# Altium schematic symbol library 肖特基二极管.SchLib: 1 symbol
Pins are listed as number, name and electrical type; pins without a type are passive.

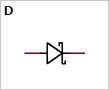
[diagram p0: symbol D]

## D
designator D?, comment B5819WS_C7420331  (value not drawn)
Manufacturer: 宏迦橙; Add into BOM: yes; Diode Configuration: 独立式; Reverse Voltage (Vr): 40V; Average Rectified Current (Io): 1A; Forward Voltage (Vf@If): 600mV@1.0A; Reverse Leakage Current (Ir): 1mA@40V; Peak forward surge current: 10A; Name: B5819WS; Symbol: B5819WS_C7420331; Device: B5819WS_C7420331; LCSC Part Name: 电压:40V 电流:1A; Supplier Part: C7420331; Manufacturer Part: B5819WS; Supplier Footprint: SOD-323; JLCPCB Part Class: Extended Part; Datasheet: https://atta.szlcsc.com/upload/public/pdf/source/20230828/03CA0F4F90DAE368A7153B7B5E4D0651.pdf; Supplier: LCSC; Convert to PCB: yes
footprint LL-34_L3.4-W1.5-RD
footprint SOD-123-L (SOD Diode;2.70mm W X 1.60mm L X 1.35mm H body)
footprint SOD-323 (SOD Diode;1.65mm W X 1.24mm L X 1.16mm H body)
footprint SOD-323_L1.7-W1.3-LS2.5-FD
footprint SOD-323_L1.8-W1.3-LS2.5-RD
footprint SMA_L4.3-W2.6-LS5.0-FD
footprint SOD-523_L1.2-W0.8-LS1.6-RD (SOD-523; SOD523; SOD-523-2; SOT-23(TO-236); ESC; SOT-523; 0; SOD-323; SOD-523F; SC-79; SOD-523(0603); SOD-523_L1.2-W0.8-LS1.6; SOD-523_L1.2-W0.8-LS1.6-RD; -; STD5NC033B; SOD523F; SC-79(SOD-523); SOD-525; IN5819WS; EMD2)
pins: 1 A, 2 K